# Altium footprint library M2012.PcbLib: 1 footprints
Each footprint in its own frame and in the unit in brackets; x right, y up, seen from the top. Pads: shape width x height; smd on the part's side, far side on the other; paste and mask are expansions set on the pad; w line width, h text height; cw(c..) or ccw(c..) is an arc to the next point about the centre after c.
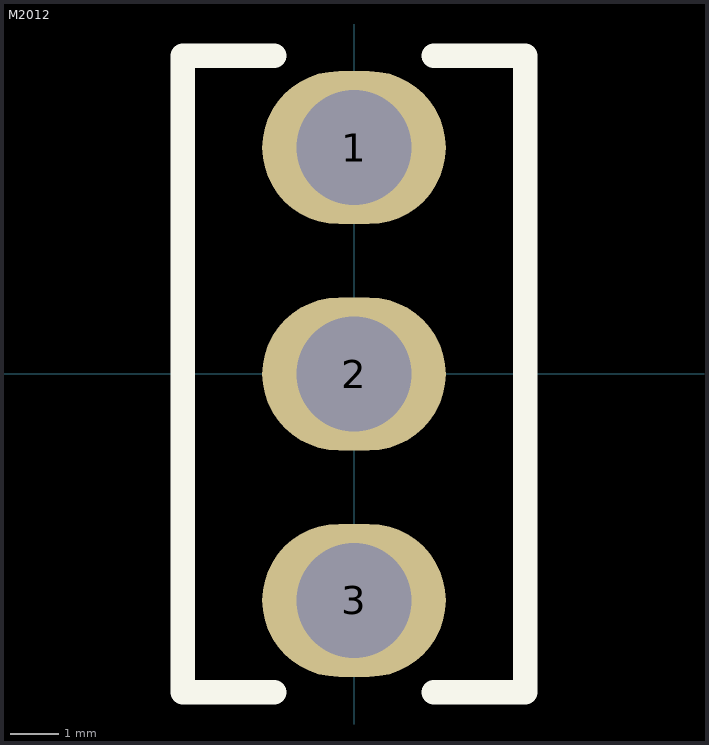
[diagram p0: the footprint, top view; thin cyan lines are the x and y axes]

## M2012 [mil]
pads (3):
  oval 150x125 hole 94: 1(0,185) 2(0,0) 3(0,-185)
Top Overlay:
  lines w20: -65.01,-260 -140.01,-260 -140.01,0 -140.01,260 -65.01,260 ; 65,-260 140,-260 140,0 140,260 65,260
3D body: height 1137.95, standoff -183, extent -197,-256 197,256